# Altium footprint library C5349327.PcbLib: 1 footprints
Each footprint in its own frame and in the unit in brackets; x right, y up, seen from the top. Pads: shape width x height; smd on the part's side, far side on the other; paste and mask are expansions set on the pad; w line width, h text height; cw(c..) or ccw(c..) is an arc to the next point about the centre after c.
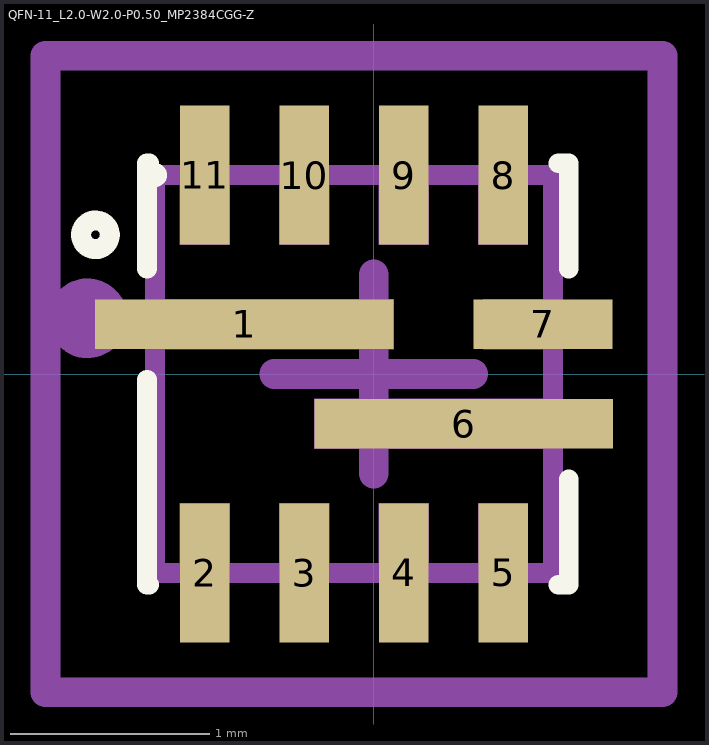
[diagram p0: the footprint, top view; thin cyan lines are the x and y axes]

## QFN-11_L2.0-W2.0-P0.50_MP2384CGG-Z [mm] "QFN-11_L2.0-W2.0-P0.50_MP2384CGG-Z"
pads (11):
  rect 1.5x0.25 smd: 1(-0.651,0.25) 6(0.451,-0.25)
  rect 0.25x0.7 smd: 2(-0.85,-1) 3(-0.35,-1) 4(0.15,-1) 5(0.65,-1) 8(0.65,1) 9(0.15,1) 10(-0.35,1) 11(-0.85,1)
  rect 0.7x0.25 smd: 7(0.85,0.25)
Top Overlay:
  circle w0.06: c-1.1,1 r0.03
  circle w0.1: c-1.4,0.7 r0.072
  lines w0.1: -1.14,-0.029 -1.14,-1.06 -1.129,-1.06 ; -1.14,0.529 -1.14,1.06 -1.129,1.06 ; 0.929,-1.06 0.98,-1.06 0.98,-0.529 ; 0.929,1.06 0.98,1.06 0.98,0.529
AOI:
  circle w0.2: c-1.44,0.28 r0.1
  region: -0.975,-0.65 -0.725,-0.65 -0.725,-1 -0.975,-1
  region: -0.475,-0.65 -0.225,-0.65 -0.225,-1 -0.475,-1
  region: 0.025,-0.65 0.275,-0.65 0.275,-1 0.025,-1
  region: 0.525,-0.65 0.775,-0.65 0.775,-1 0.525,-1
  region: 0.525,1 0.775,1 0.775,0.65 0.525,0.65
  region: 0.025,1 0.275,1 0.275,0.65 0.025,0.65
  region: -0.475,1 -0.225,1 -0.225,0.65 -0.475,0.65
  region: -0.975,1 -0.725,1 -0.725,0.65 -0.975,0.65
  region: -0.3,-0.125 0.9,-0.125 0.9,-0.375 -0.3,-0.375
  region: -1.1,0.375 0.1,0.375 0.1,0.125 -1.1,0.125
  region: 0.55,0.375 0.9,0.375 0.9,0.125 0.55,0.125
Top 3D Body:
  lines w0.1: -1.1,-1 0.9,-1 0.9,1 -1.1,1 -1.1,-1
Top Courtyard:
  lines w0.15: -0.5,0 0.5,0 ; 0,-0.5 0,0.5 ; -1.651,-1.6 1.451,-1.6 1.451,1.6 -1.651,1.6 -1.651,-1.6
3D body "QFN-11_L2.0-W2.0-P0.50_MP2384CGG-Z.step": height 0.03, standoff 0, extent -1.1,-1 0.9,1